# EAGLE library part CONN_HDMI_TYPED_CONN19_HDMI_101 (library BeagleBone_Black_egl)
CONN_HDMI_TYPED_CONN19_HDMI_101
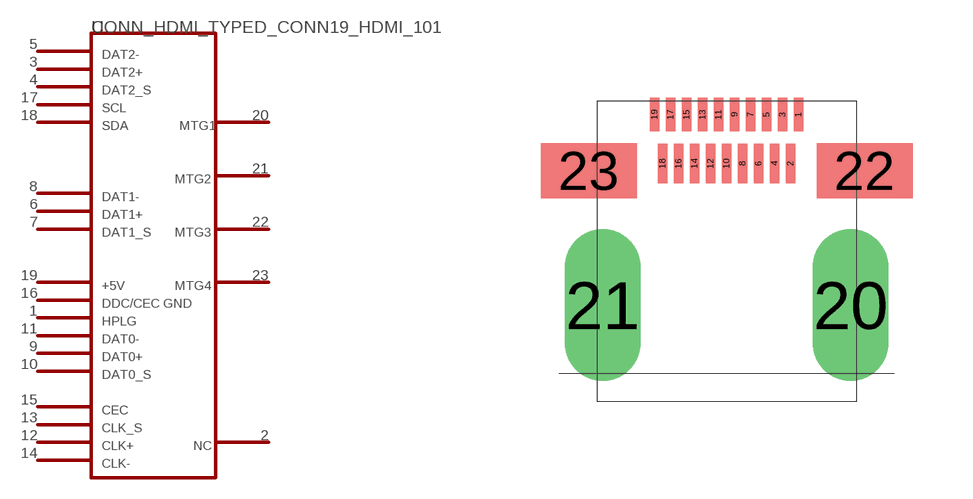
[diagram p2: symbol with the pads of CONN19_HDMI; footprint CONN19_HDMI]

Designator prefix -

## CONN_HDMI_TYPED_CONN19_HDMI_101  [CONN19_HDMI]
1  19
2  14
3  1
4  3
5  2
6  4
7  5
8  6
9  7
10  8
11  9
12  10
13  12
14  11
15  13
16  17
17  15
18  16
19  18
20  20
21  21
22  22
23  23

## Footprint CONN19_HDMI (pad centres in mm)
smd 0.23 x 0.85: 1 1.8,4.765; 3 1.4,4.765; 5 1,4.765; 7 0.6,4.765; 9 0.2,4.765; 11 -0.2,4.765; 13 -0.6,4.765; 15 -1,4.765; 17 -1.4,4.765; 19 -1.8,4.765
smd 0.23 x 1: 2 1.6,3.54; 4 1.2,3.54; 6 0.8,3.54; 8 0.4,3.54; 10 0,3.54; 12 -0.4,3.54; 14 -0.8,3.54; 16 -1.2,3.54; 18 -1.6,3.54
drill 1.27 pad 1.651 long: 20 3.1,0; 21 -3.1,0
smd 2.4 x 1.38: 22 3.45,3.36; 23 -3.45,3.36